# Altium schematic symbol library SCH - DRIVER - LED - TI TLC6C598-Q1PW.SchLib: 1 symbol
Pins are listed as number, name and electrical type; pins without a type are passive.

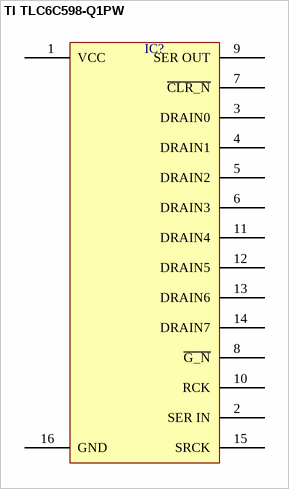
[diagram p0: symbol TI TLC6C598-Q1PW]

## TI TLC6C598-Q1PW
designator IC?  (value not drawn)
pins: 1 VCC, 2 SER IN, 3 DRAIN0, 4 DRAIN1, 5 DRAIN2, 6 DRAIN3, 7 ~{CLR_N}, 8 ~{G_N}, 9 SER OUT, 10 RCK, 11 DRAIN4, 12 DRAIN5, 13 DRAIN6, 14 DRAIN7, 15 SRCK, 16 GND